# Altium schematic symbol library TPH4R50ANH1,LQ.SchLib: 1 symbol
Pins are listed as number, name and electrical type; pins without a type are passive.

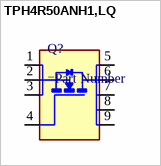
[diagram p0: symbol TPH4R50ANH1,LQ]

## TPH4R50ANH1,LQ
designator Q?
=Description
pins: 1 S, 2 S, 3 S, 4 G, 5 D, 6 D, 7 D, 8 D, 9 D